# Altium integrated library TS-101-X-A-1.IntLib: 1 symbol
Pins are listed as number, name and electrical type; pins without a type are passive.

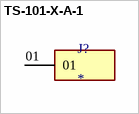
[diagram p0: symbol TS-101-X-A-1]

## TS-101-X-A-1
designator J?
1 Position Header Connector Male Pin Gold; MF: Samtec Inc.; MP: TS-101-G-A-1; SnapEDA_Link: https://www.snapeda.com/parts/TS-101-G-A-1/Samtec+Inc./view-part/?ref=snap; Package: None; Value: *; Check_prices: https://www.snapeda.com/parts/TS-101-G-A-1/Samtec+Inc./view-part/?ref=eda
footprint SAMTEC_TS-101-X-A-1
pins: 01